# Altium footprint library Misc.SIP.PcbLib: 3 footprints
Each footprint in its own frame and in the unit in brackets; x right, y up, seen from the top. Pads: shape width x height; smd on the part's side, far side on the other; paste and mask are expansions set on the pad; w line width, h text height; cw(c..) or ccw(c..) is an arc to the next point about the centre after c.
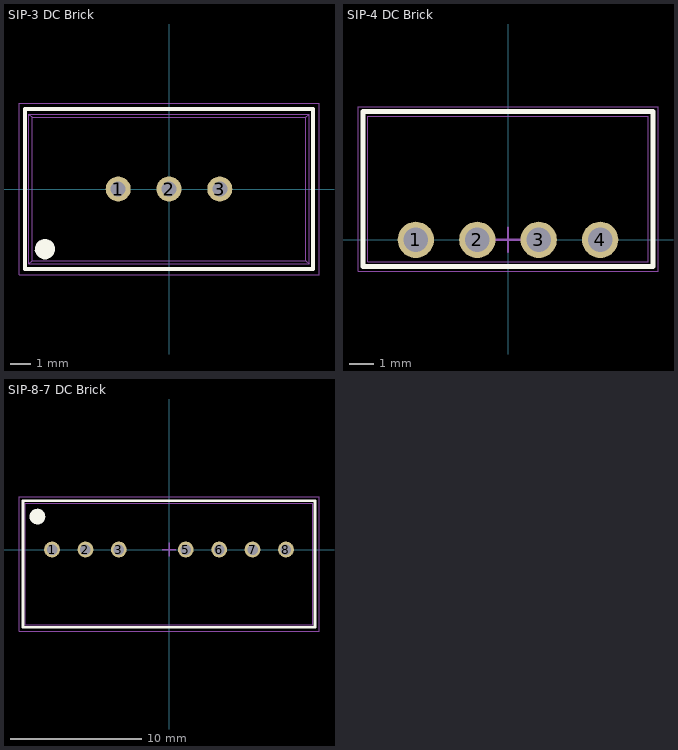
[diagram p0: the footprints below, top view; thin cyan lines are the x and y axes]

## SIP-3 DC Brick [mm] "DC Brick, SIP-3 Package, 14.00x7.50mm, 3-Leads, 2.54mm Ptich"
height 10.1
pads (3):
  round 1.25 hole 0.75: 1(-2.54,0) 2(0,0) 3(2.54,0)
Top Overlay:
  region: -6.7,-3 -6.7,-2.901 -6.624,-2.717 -6.483,-2.576 -6.299,-2.5 -6.101,-2.5 -5.917,-2.576 -5.776,-2.717 -5.7,-2.901 -5.7,-3 -5.7,-3.099 -5.776,-3.283 -5.917,-3.424 -6.101,-3.5 -6.299,-3.5 -6.483,-3.424 -6.624,-3.283 -6.7,-3.099
  lines w0.2: -7.2,-4 7.2,-4 7.2,4 -7.2,4 -7.2,-4
Mechanical 1:
  lines w0.05: -7,-3.75 -7,3.75 ; -7,-3.75 -6.832,-3.582 ; -7,-3.75 7,-3.75 ; -7,3.75 -6.832,3.582 ; -7,3.75 7,3.75 ; -6.832,-3.582 -6.832,3.582 ; -6.832,-3.582 6.832,-3.582 ; -6.832,3.582 6.832,3.582 ; 6.832,-3.582 6.832,3.582 ; 6.832,-3.582 7,-3.75 ; 6.832,3.582 7,3.75 ; 7,-3.75 7,3.75
Mechanical 15:
  lines w0.05: -7.5,-4.3 7.5,-4.3 7.5,4.3 -7.5,4.3 -7.5,-4.3
  lines w0.1: -0.5,0 0.5,0 ; 0,-0.5 0,0.5
3D body "tsr2_3d_drawing.STEP": height 10.1, standoff -4.1, extent -7,-3.75 7,3.75

## SIP-4 DC Brick [mm] "DC Brick, SIP-4 Package, 11.60x6.00mm, 4-Leads, 2.54mm Ptich"
height 10.16
pads (4):
  round 1.5 hole 1: 1(-3.81,0) 2(-1.27,0) 3(1.27,0) 4(3.81,0)
Top Overlay:
  lines w0.2: -6,-1.1 6,-1.1 6,5.3 -6,5.3 -6,-1.1
Mechanical 1:
  lines w0.05: -5.8,-0.9 5.8,-0.9 5.8,5.1 -5.8,5.1 -5.8,-0.9
Mechanical 15:
  lines w0.05: -6.2,-1.3 6.2,-1.3 6.2,5.5 -6.2,5.5 -6.2,-1.3
  lines w0.1: -0.5,0 0.5,0 ; 0,-0.5 0,0.5
3D body "SIP-4 DC Brick.STEP": height 10.16, standoff -3, extent -5.8,-0.9 5.8,5.1

## SIP-8-7 DC Brick [mm] "DC Brick, SIP-8 Package, 21.85x9.20mm, 7-Leads, 2.54mm Ptich"
height 11.1
pads (7):
  round 1.2 hole 0.8: 1(-8.89,0) 2(-6.35,0) 3(-3.81,0) 5(1.27,0) 6(3.81,0) 7(6.35,0) 8(8.89,0)
Top Overlay:
  circle w0.2: c-10,2.5 r0.5
  region: -10,2 -10.099,2 -10.283,2.076 -10.424,2.217 -10.5,2.401 -10.5,2.5 -10.5,2.599 -10.424,2.783 -10.283,2.924 -10.099,3 -10,3 -9.901,3 -9.717,2.924 -9.576,2.783 -9.5,2.599 -9.5,2.5 -9.5,2.401 -9.576,2.217 -9.717,2.076 -9.901,2
  lines w0.2: -11.1,-5.9 -11.1,3.7 11.1,3.7 11.1,-5.9 -11.1,-5.9
Mechanical 1:
  lines w0.05: -10.925,-5.7 10.925,-5.7 10.925,3.5 -10.925,3.5 -10.925,-5.7
Mechanical 15:
  lines w0.05: -11.4,-6.2 -11.4,4 11.4,4 11.4,-6.2 -11.4,-6.2
  lines w0.1: -0.5,0 0.5,0 ; 0,-0.5 0,0.5
3D body "Aimtec_AM3GH.STEP": height 11.1, standoff -3.05, extent -10.925,-5.7 10.925,3.5